# Altium schematic symbol library SARA-N310-00X.SchLib: 1 symbol
Pins are listed as number, name and electrical type; pins without a type are passive.

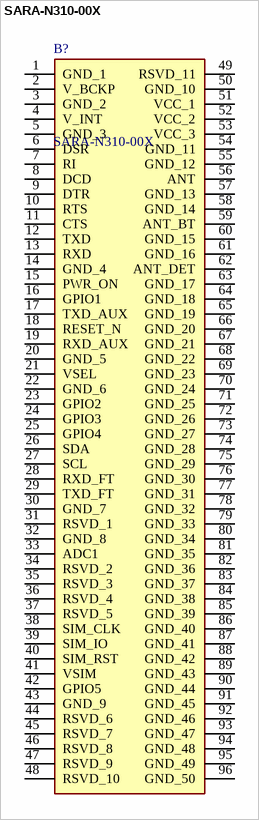
[diagram p0: symbol SARA-N310-00X]

## SARA-N310-00X
designator B?
Cellular Modules NB-IoT multiband global module Cat NB1, Band 3, 5, 8, 20, 28 LGA, 16x26 mm, 250 pcs/reel; Manufacturer_Name: u-blox; Geometry.Height: 2.65mm; Mouser Part Number: 377-SARA-N310-00X; Mouser Price/Stock: https://www.mouser.co.uk/ProductDetail/u-blox/SARA-N310-00X?qs=KUoIvG%2F9IlbUjCHEHTky9Q%3D%3D; Manufacturer_Part_Number: SARA-N310-00X; Datasheet Link: https://content.u-blox.com/sites/default/files/SARA-N3_DataSheet_UBX-18066692.pdf
footprint SARAN31000X
pins: 1 GND_1, 2 V_BCKP, 3 GND_2, 4 V_INT, 5 GND_3, 6 DSR, 7 RI, 8 DCD, 9 DTR, 10 RTS, 11 CTS, 12 TXD, 13 RXD, 14 GND_4, 15 PWR_ON, 16 GPIO1, 17 TXD_AUX, 18 RESET_N, 19 RXD_AUX, 20 GND_5, 21 VSEL, 22 GND_6, 23 GPIO2, 24 GPIO3, 25 GPIO4, 26 SDA, 27 SCL, 28 RXD_FT, 29 TXD_FT, 30 GND_7, 31 RSVD_1, 32 GND_8, 33 ADC1, 34 RSVD_2, 35 RSVD_3, 36 RSVD_4, 37 RSVD_5, 38 SIM_CLK, 39 SIM_IO, 40 SIM_RST, 41 VSIM, 42 GPIO5, 43 GND_9, 44 RSVD_6, 45 RSVD_7, 46 RSVD_8, 47 RSVD_9, 48 RSVD_10, 49 RSVD_11, 50 GND_10, 51 VCC_1, 52 VCC_2, 53 VCC_3, 54 GND_11, 55 GND_12, 56 ANT, 57 GND_13, 58 GND_14, 59 ANT_BT, 60 GND_15, 61 GND_16, 62 ANT_DET, 63 GND_17, 64 GND_18, 65 GND_19, 66 GND_20, 67 GND_21, 68 GND_22, 69 GND_23, 70 GND_24, 71 GND_25, 72 GND_26, 73 GND_27, 74 GND_28, 75 GND_29, 76 GND_30, 77 GND_31, 78 GND_32, 79 GND_33, 80 GND_34, 81 GND_35, 82 GND_36, 83 GND_37, 84 GND_38, 85 GND_39, 86 GND_40, 87 GND_41, 88 GND_42, 89 GND_43, 90 GND_44, 91 GND_45, 92 GND_46, 93 GND_47, 94 GND_48, 95 GND_49, 96 GND_50